# EAGLE library part MC74HC4066ADR2G (library bb_MC74HC4066ADR2G)
Quad Analog Switch/Multiplexer/Demultiplexer
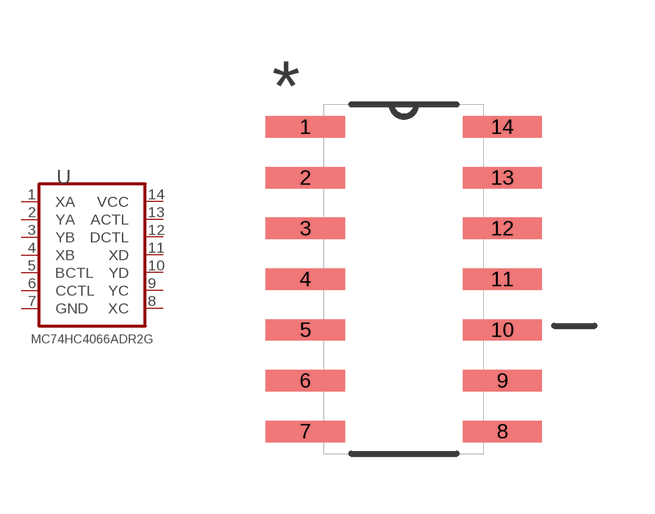
[diagram p0: symbol with the pads of SOIC127P600X175-14N; footprint SOIC127P600X175-14N]

Designator prefix U

## MC74HC4066ADR2G (MPN: MC74HC4066ADR2G; OC_FARNELL: 1273200; OC_NEWARK: 84K8781; PACKAGE: SOIC-14; SUPPLIER: ON SEMICONDUCTOR)  [SOIC127P600X175-14N]
1  XA  in
2  YA  out
3  YB  out
4  XB  in
5  BCTL  in
6  CCTL  in
7  GND  pas
8  XC  in
9  YC  out
10  YD  out
11  XD  in
12  DCTL  in
13  ACTL  in
14  VCC  pwr

## Footprint SOIC127P600X175-14N (pad centres in mm)
smd 1.981 x 0.533: 1 -2.464,3.81; 2 -2.464,2.54; 3 -2.464,1.27; 4 -2.464,0; 5 -2.464,-1.27; 6 -2.464,-2.54; 7 -2.464,-3.81; 8 2.464,-3.81; 9 2.464,-2.54; 10 2.464,-1.27; 11 2.464,0; 12 2.464,1.27; 13 2.464,2.54; 14 2.464,3.81